# EAGLE library part ACC_9_1_P (library con-misc)
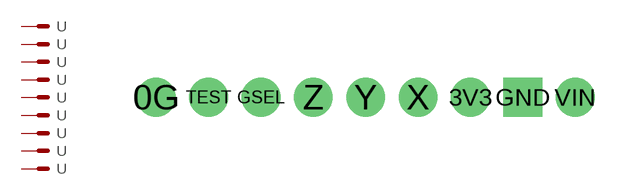
[diagram p0: symbol with the pads of ACC_9_1_P; footprint ACC_9_1_P]

Designator prefix -

## ACC_9_1_P  [ACC_9_1_P]
0G  0G  pas
3V3  3V3  pas
GND  GND  pas
GSEL  GSEL  pas
TEST  TEST  pas
VIN  VIN  pas
X  X  pas
Y  Y  pas
Z  Z  pas

## Footprint ACC_9_1_P (pad centres in mm)
drill 1.06 pad 1.88: 0G -10.16,0; 3V3 5.08,0; GSEL -5.08,0; TEST -7.62,0; VIN 10.16,0; X 2.54,0; Y 0,0; Z -2.54,0
drill 1.06 pad 1.88 square: GND 7.62,0